# EAGLE library part 1825140-1 (library Switches)
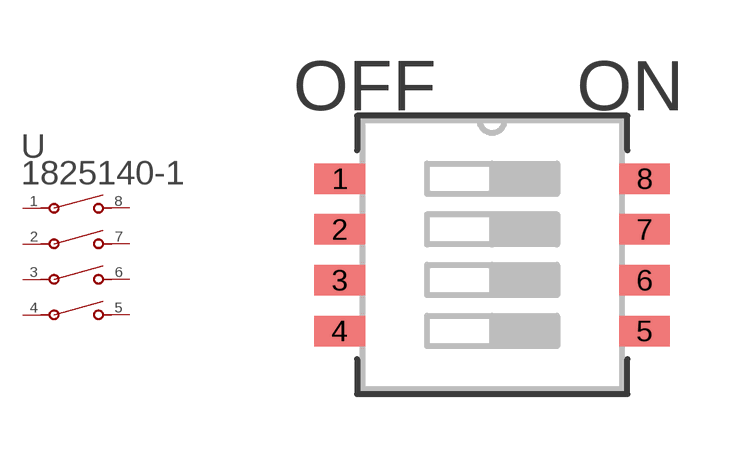
[diagram p42: symbol with the pads of SWSO8_300X69P50; footprint SWSO8_300X69P50]

Designator prefix U

## 1825140-1 (BUILT_BY: EMA_UL_Team; CATEGORY: DIP & SIP Switches; COPYRIGHT: Copyright (C) 2016 Accelerated Designs. All rights reserved; DESCRIPTION: MGDH0404=LOW PROFILE DIP SWITCH; MANUFACTURER_PART_NUMBER: 1825140-1; PART_STATUS: active; SERIES: Alcoswitch DIP,Alcoswitch DIP MGD LP; VENDOR: TE Connectivity)  [SWSO8_300X69P50]
1  1  pas
2  2  pas
3  3  pas
4  4  pas
5  5  pas
6  6  pas
7  7  pas
8  8  pas

## Footprint SWSO8_300X69P50 (pad centres in mm)
smd 1.27 x 0.762: 1 -3.81,1.905; 2 -3.81,0.635; 3 -3.81,-0.635; 4 -3.81,-1.905; 5 3.81,-1.905; 6 3.81,-0.635; 7 3.81,0.635; 8 3.81,1.905